# Altium integrated library Linear Technology PMIC-Switching Reg LTC1174-LTC3901.IntLib: 2647 symbols (part 195 of 310)
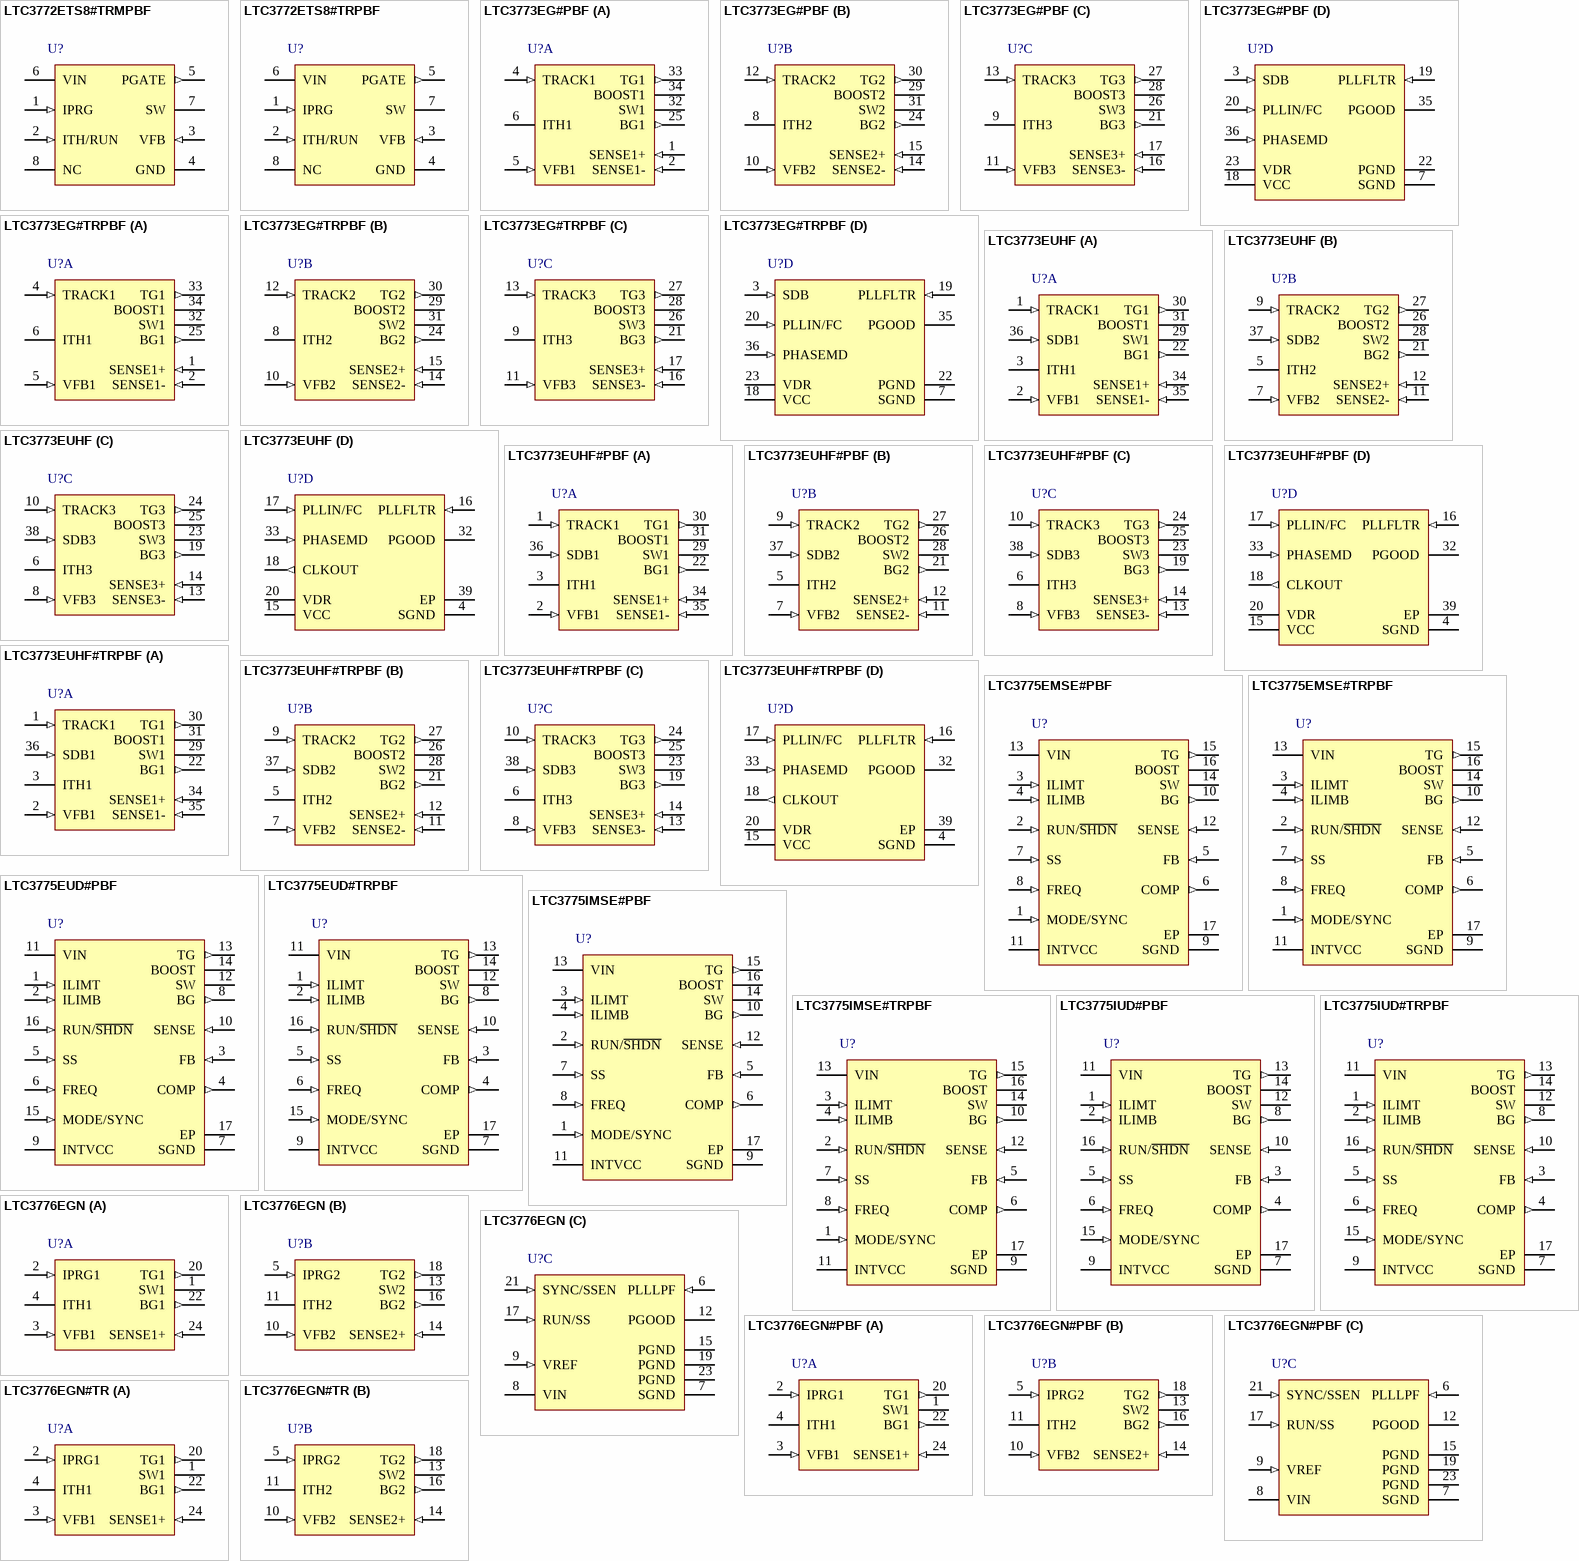
[diagram p329: symbols LTC3772ETS8#TRMPBF to LTC3776EGN#TR]

## LTC3772ETS8#TRPBF
designator U?
Micropower No Rsense Constant Frequency Step-Down DC/DC Controller, 8-pin SOT23 (TS8-8), -40 to 85 degC, Pb-Free, Tape and Reel; Manufacturer: Linear Technology; PartNumber: LTC3772ETS8#TRPBF; Number of Outputs: 1; PackageReference: TS8-8; PackageDescription: 8-Pin Plastic TSOT-23, Body 2.9 x 1.63 mm, Pitch 0.65 mm; Supplier 1: Digi-Key; Supplier Part Number 1: LTC3772ETS8#TRPBF-ND; RoHS: TRUE; Code_JEDEC: MO-193
footprint LT-TS8-8-TSOT-23_V (SOT23, 8-Leads, Body 2.9x1.75mm, Pitch 0.65mm)
pins: 1 IPRG (in) "Current Sense Limit Pin. Three-state pin selects maximum peak sense voltage threshold. The pin selects the maximum voltage drop across the external P-channel MOSFET.", 2 ITH/RUN (in) "This pin performs two functions. It serves as the error amplifier compensation point as well as the run control input. Nominal voltage range for this pin is 0.7V to 1.9V. Forcing this pin below 0.6V causes the device to be (See Datasheet)", 3 VFB (in) "Receives the feedback voltage from an external resistor divider across the output.", 4 GND (power) "Ground Pin.", 5 PGATE (out) "Gate Drive for the External P-Channel MOSFET. This pin swings from 0V to VIN.", 6 VIN (power) "Supply and Current Sense Input Pin. This pin must be closely decoupled to GND (Pin 4). Normally the external P-channel MOSFET’s source is connected to this pin.", 7 SW "Switch Node Connection to Inductor and Current Sense Input Pin. Normally, the external P-channel MOSFET’s drain is connected to this pin.", 8 NC "No Connection Required."